# EAGLE library part NE5532 (library BME_Components)
Internally Compensated Dual Low Noise Operational Amplifier, 6 to 40 V, 0 to 70 degC, 8-Pin PDIP, Tube
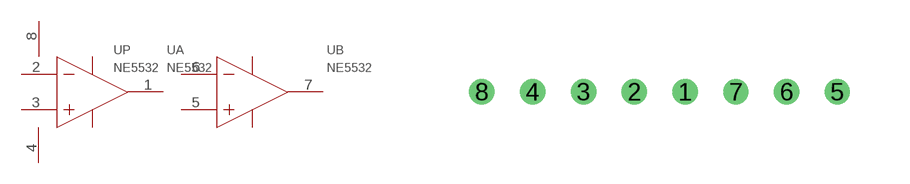
[diagram p11: symbol with the pads of NE5532_PDIP-8; footprint NE5532_PDIP-8]

Designator prefix U; gates P=NE5532_P A=NE5532_A B=NE5532_B

## NE5532NE5532_NE5532_PDIP-8 (COMPONENTLINK1DESCRIPTION: Manufacturer URL; COMPONENTLINK1URL: http://www.onsemi.com/; COMPONENTLINK2DESCRIPTION: Datasheet; COMPONENTLINK2URL: http://www.onsemi.cn/pub_link/Collateral/NE5532-D.PDF; COMPONENTLINK3DESCRIPTION: Package Specification; COMPONENTLINK3URL: http://www.onsemi.cn/pub_link/Collateral/626-05.PDF; DATASHEETVERSION: Rev. 2; GBW_TYP_(MHZ): 10; MANUFACTURER: On Semiconductor; MOUNTING_TECHNOLOGY: Through Hole; PACKAGEDESCRIPTION: 8-Pin Plastic Dual-In Line Package, Body 9.59 x 6.605 mm, Pitch 2.54 mm; PACKAGEREFERENCE: PDIP-8-626-05; PACKAGEVERSION: Rev. N, 06/2013; PACKING: Tube; PARTNUMBER: NE5532N; ROHS: FALSE; SR_TYP_(V/US): 9; VCC_MAX_(V): 40; VCC_MIN_(V): 6)  [NE5532_PDIP-8]
1  A:OUTA  out
2  A:INA-  in
3  A:INA+  in
4  P:V-  pwr
5  B:INB+  in
6  B:INB-  in
7  B:OUTB  out
8  P:V+  pwr

## Footprint NE5532_PDIP-8 (pad centres in mm)
drill 0.127 pad 0.254 round: 1 5.08,0; 2 3.81,0; 3 2.54,0; 4 1.27,0; 5 8.89,0; 6 7.62,0; 7 6.35,0; 8 0,0